# Altium schematic symbol library M22-7131042.SchLib: 1 symbol
Pins are listed as number, name and electrical type; pins without a type are passive.

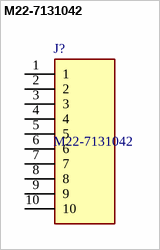
[diagram p0: symbol M22-7131042]

## M22-7131042
designator J?
2.00mm (0.079") Pitch SIL Vertical 2.6mm Throughboard Socket Assembly, selective gold + tin, 10 contacts; Manufacturer_Name: Harwin; Geometry.Height: 4.4mm; Mouser Part Number: 855-M22-7131042; Mouser Price/Stock: https://www.mouser.co.uk/ProductDetail/Harwin/M22-7131042?qs=WS5Jv%252B%252Bx1qUfXs5lYp1U1g%3D%3D; Manufacturer_Part_Number: M22-7131042; Datasheet Link: https://cdn.harwin.com/pdfs/M22-713.pdf
footprint RHDR10W50P0X200_1X10_2050X240X440P
pins: 1, 2, 3, 4, 5, 6, 7, 8, 9, 10